# EAGLE library part BOARD_CONNECTOR_MOTOR_PWR (library timelapse-prototype-parts)
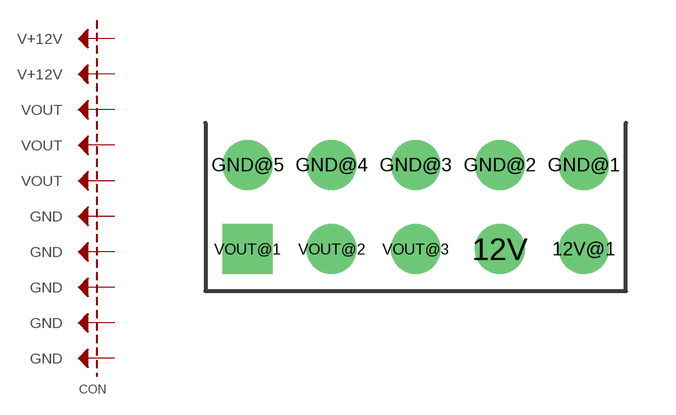
[diagram p8: symbol with the pads of BOARD_CONNECTOR_MOTOR_PWR; footprint BOARD_CONNECTOR_MOTOR_PWR]

Designator prefix CON

## BOARD_CONNECTOR_MOTOR_PWR  [BOARD_CONNECTOR_MOTOR_PWR]
12V  V+12V
12V@1  V+12V
GND@1  GND
GND@2  GND
GND@3  GND
GND@4  GND
GND@5  GND
VOUT@1  VOUT
VOUT@2  VOUT
VOUT@3  VOUT

## Footprint BOARD_CONNECTOR_MOTOR_PWR (pad centres in mm)
drill 1 round: 12V 0,0; 12V@1 2.54,0; GND@1 2.54,2.54; GND@2 0,2.54; GND@3 -2.54,2.54; GND@4 -5.08,2.54; GND@5 -7.62,2.54; VOUT@2 -5.08,0; VOUT@3 -2.54,0
drill 1 square: VOUT@1 -7.62,0